# EAGLE library part MCP1253-ADJ (library microchip-MCP125x)
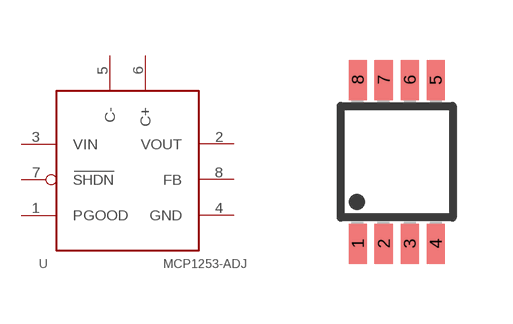
[diagram p1: symbol with the pads of MSOP8; footprint MSOP8]

Designator prefix -

## MCP1253-ADJ  [MSOP8]
1  PGOOD  out
2  VOUT  out
3  VIN  pwr
4  GND  pwr
5  C-
6  C+
7  SHDN  in
8  FB  in

## Footprint MSOP8 (pad centres in mm)
Micro Small Outline Package Grid .65mm
smd 0.45 x 1: 1 -0.975,-2.05; 2 -0.325,-2.05; 3 0.325,-2.05; 4 0.975,-2.05; 5 0.975,2.05; 6 0.325,2.05; 7 -0.325,2.05; 8 -0.975,2.05